# Altium schematic symbol library Schlib1.SchLib: 7 symbols
Pins are listed as number, name and electrical type; pins without a type are passive.

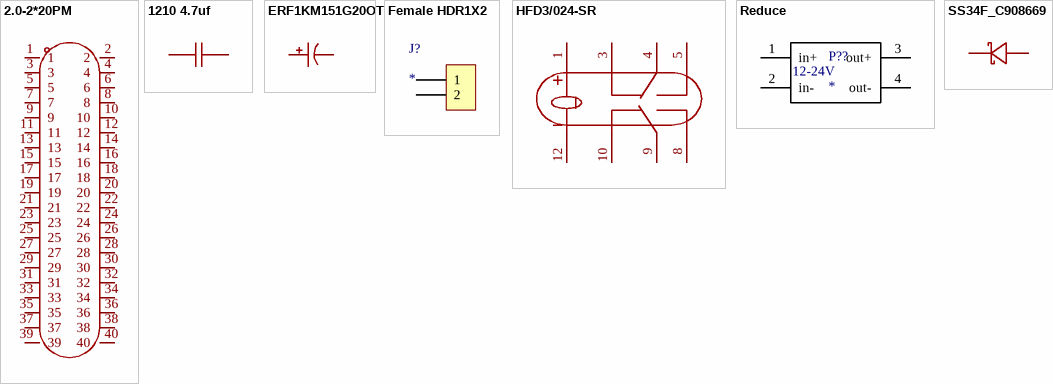
[diagram p0: symbols 2.0-2*20PM to SS34F_C908669]

## 2.0-2*20PM
designator H??  (value not drawn)
Manufacturer: BOOMELE(博穆精密); Symbol: 直排母2*20p; Add into BOM: yes; Pitch: 2mm; Number of Holes: 40P; Device: 2.0-2*20PM; LCSC Part Name: 间距:2mm 直插; Supplier Part: C110426; Manufacturer Part: 2.0-2*20PM; Supplier Footprint: 插件,P=2mm; JLCPCB Part Class: Extended Part; Datasheet: https://atta.szlcsc.com/upload/public/pdf/source/20230330/72429EBD17B7DF6EF48873C4D9CA2FEF.pdf; Supplier: LCSC; Convert to PCB: yes; Holes Structure: -; Row Spacing: 2mm; Circular Hole / Square Hole: -; Mounting Type: 直插; Number of Rows: 双排; Current Rating (Max): -; Voltage Rating (Max): -; Holes Direction: -; Insulation Height: -; Contact Material: -; Contact Plating: -; Operating Temperature Range: -; Soldering Temperature(Max): -
footprint HDR-TH_40P-P2.00-V-F-R2-C20-S2.00
pins: 1, 2, 3, 4, 5, 6, 7, 8, 9, 10, 11, 12, 13, 14, 15, 16, 17, 18, 19, 20, 21, 22, 23, 24, 25, 26, 27, 28, 29, 30, 31, 32, 33, 34, 35, 36, 37, 38, 39, 40

## 1210 4.7uf
designator C??, comment 4.7uF  (value not drawn)
Manufacturer: FH(风华); Symbol: 1210B475K101NT; Add into BOM: yes; Tolerance: ±10%; Voltage Rated: 100V; Temperature Coefficient: X7R; Device: 1210B475K101NT; LCSC Part Name: 4.7uF ±10% 100V; Supplier Part: C2840282; Manufacturer Part: 1210B475K101NT; Supplier Footprint: 1210; JLCPCB Part Class: Extended Part; Datasheet: https://atta.szlcsc.com/upload/public/pdf/source/20210617/C2840282_5B7AB5BFD77495008CFAB3FC2796A0E9.pdf; Supplier: LCSC; Convert to PCB: yes; Value: 4.7uF
footprint c1210
pins: 1, 2

## ERF1KM151G20OT
designator C??, comment 150uF  (value not drawn)
Manufacturer: AISHI(艾华集团); Symbol: ERF1KM151G20OT; Add into BOM: yes; Tolerance: ±20%; Rated Voltage: 100V; φD: 10mm; L: 20mm; Lifetime @ Temp: 5000hrs@105℃; Device: ERF1KM151G20OT; LCSC Part Name: 150uF ±20% 100V; Supplier Part: C106544; Manufacturer Part: ERF1KM151G20OT; Supplier Footprint: 插件,D10xL20mm; JLCPCB Part Class: Extended Part; Datasheet: https://atta.szlcsc.com/upload/public/pdf/source/20190702/C401585_ECDCA01C06D0A8ADC16AC29A8A7D8A63.pdf; Supplier: LCSC; Convert to PCB: yes; Value: 150uF; Ripple Current: -; Equivalent Series Resistance(ESR): -; Lead Spacing: 5mm
footprint CAP-TH_BD10.0-P5.00-D1.0-FD
pins: 1, 2

## Female HDR1X2
designator J?
单排2P排母
footprint Fe-HDR1X2/2.54-S (Connector; Header; 2x2 Position)
pins: 1, 2

## HFD3/024-SR
designator K??  (value not drawn)
Manufacturer: HF(宏发); Add into BOM: yes; Symbol: HFD3/024-SR; Device: HFD3/024-SR; LCSC Part Name: HFD3/024-SR; Supplier Part: C2976890; Manufacturer Part: HFD3/024-SR; Supplier Footprint: SMD,7.5x15mm; JLCPCB Part Class: Extended Part; Datasheet: https://atta.szlcsc.com/upload/public/pdf/source/20220224/5852046A7C118294A4FC4B654E452D27.pdf; Supplier: LCSC; Convert to PCB: yes
footprint RELAY-SMD_HF_HFD3XXX-SR
pins: 1, 3, 4, 5, 8, 9, 10, 12

## Reduce
designator P??
电磁铁降压模块
pins: 1 in+, 2 in-, 3 out+, 4 out-
text: 12-24V

## SS34F_C908669
designator D??, comment SS34F  (value not drawn)
Manufacturer: GOODWORK(固得沃克); Symbol: SS34F_C908669; Add into BOM: yes; Diode Configuration: 独立式; Forward Voltage (Vf@If): 550mV@3A; Reverse Voltage (Vr): 40V; Average Rectified Current (Io): 3A; Reverse Leakage Current (Ir): 200uA@40V; Device: SS34F_C908669; LCSC Part Name: 电压:40V 电流:3A; Supplier Part: C908669; Manufacturer Part: SS34F; Supplier Footprint: SMAF; JLCPCB Part Class: Extended Part; Datasheet: https://atta.szlcsc.com/upload/public/pdf/source/20201231/C908669_14F884D2643FB3EE455C9EAA3A20B275.pdf; Supplier: LCSC; Convert to PCB: yes
footprint SMAF_L3.5-W2.6-LS4.7-FD
pins: 1 A, 2 K